# EAGLE library part LOCUX (library BaseApp)
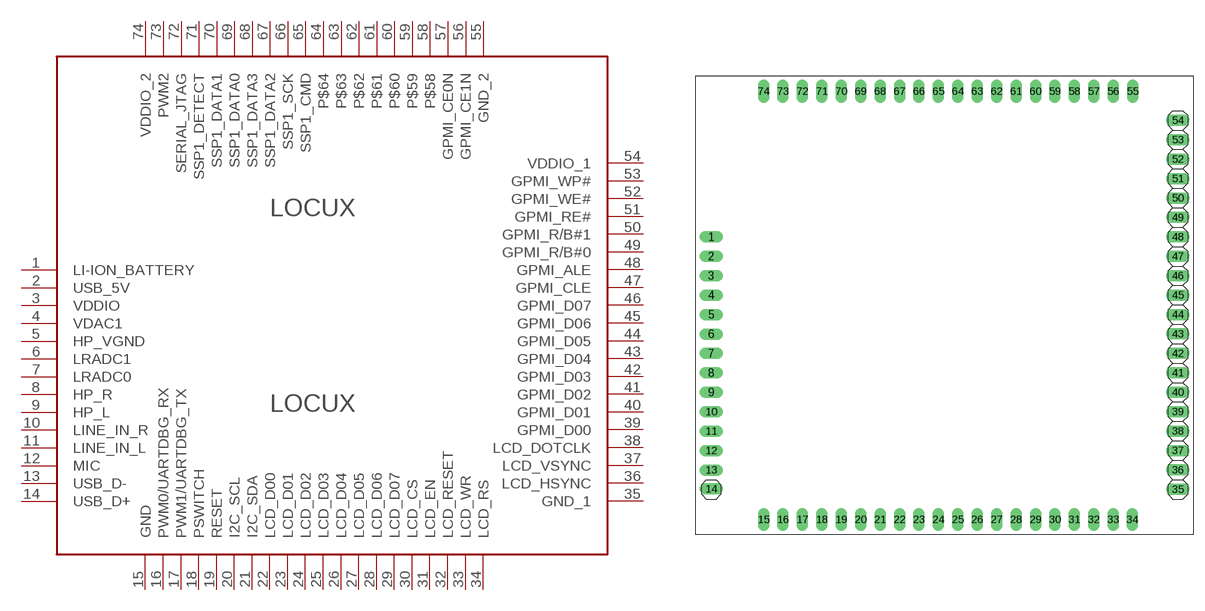
[diagram p24: symbol with the pads of LOCUXBOARD; footprint LOCUXBOARD]

Designator prefix LOCUX

## LOCUX-VIET  [LOCUXBOARD]
1  LI-ION_BATTERY
2  USB_5V
3  VDDIO
4  VDAC1
5  HP_VGND
6  LRADC1
7  LRADC0
8  HP_R
9  HP_L
10  LINE_IN_R
11  LINE_IN_L
12  MIC
13  USB_D-
14  USB_D+
15  GND
16  PWM0/UARTDBG_RX
17  PWM1/UARTDBG_TX
18  PSWITCH
19  RESET
20  I2C_SCL
21  I2C_SDA
22  LCD_D00
23  LCD_D01
24  LCD_D02
25  LCD_D03
26  LCD_D04
27  LCD_D05
28  LCD_D06
29  LCD_D07
30  LCD_CS
31  LCD_EN
32  LCD_RESET
33  LCD_WR
34  LCD_RS
35  GND_1
36  LCD_HSYNC
37  LCD_VSYNC
38  LCD_DOTCLK
39  GPMI_D00
40  GPMI_D01
41  GPMI_D02
42  GPMI_D03
43  GPMI_D04
44  GPMI_D05
45  GPMI_D06
46  GPMI_D07
47  GPMI_CLE
48  GPMI_ALE
49  GPMI_R/B#0
50  GPMI_R/B#1
51  GPMI_RE#
52  GPMI_WE#
53  GPMI_WP#
54  VDDIO_1
55  GND_2
56  GPMI_CE1N
57  GPMI_CE0N
58  P$58  nc
59  P$59  nc
60  P$60  nc
61  P$61  nc
62  P$62  nc
63  P$63  nc
64  P$64  nc
65  SSP1_CMD
66  SSP1_SCK
67  SSP1_DATA2
68  SSP1_DATA3
69  SSP1_DATA0
70  SSP1_DATA1
71  SSP1_DETECT
72  SERIAL_JTAG
73  PWM2
74  VDDIO_2

## Footprint LOCUXBOARD (pad centres in mm)
drill 1.016 long: 1 2,38.95; 2 2,36.41; 3 2,33.87; 4 2,31.33; 5 2,28.79; 6 2,26.25; 7 2,23.71; 8 2,21.17; 9 2,18.63; 10 2,16.09; 11 2,13.55; 12 2,11.01; 13 2,8.47; 14 2,6; 15 8.84,2; 16 11.38,2; 17 13.92,2; 18 16.46,2; 19 19,2; 20 21.54,2; 21 24.08,2; 22 26.62,2; 23 29.16,2; 24 31.7,2; 25 34.24,2; 26 36.78,2; 27 39.32,2; 28 41.86,2; 29 44.4,2; 30 46.94,2; 31 49.48,2; 32 52.02,2; 33 54.56,2; 34 57.05,1.99; 35 63.01,5.94; 36 63.01,8.48; 37 63.01,11.02; 38 63.01,13.56; 39 63.01,16.1; 40 63.01,18.64; 41 63.01,21.18; 42 63.01,23.72; 43 63.01,26.26; 44 63.01,28.8; 45 63.01,31.34; 46 63.01,33.88; 47 63.01,36.42; 48 63.01,38.96; 49 63.01,41.5; 50 63.01,44.04; 51 63.01,46.58; 52 63.01,49.12; 53 63.01,51.66; 54 63.01,54.2; 55 57.1,58; 56 54.56,58; 57 52.02,58; 58 49.48,58; 59 46.94,58; 60 44.4,58; 61 41.86,58; 62 39.32,58; 63 36.78,58; 64 34.24,58; 65 31.7,58; 66 29.16,58; 67 26.62,58; 68 24.08,58; 69 21.54,58; 70 19,58; 71 16.46,58; 72 13.92,58; 73 11.38,58; 74 8.84,58